# EAGLE library part MCP25050 (library microchip_mcp25xxx)
CAN I/O Expander ( with A/D )
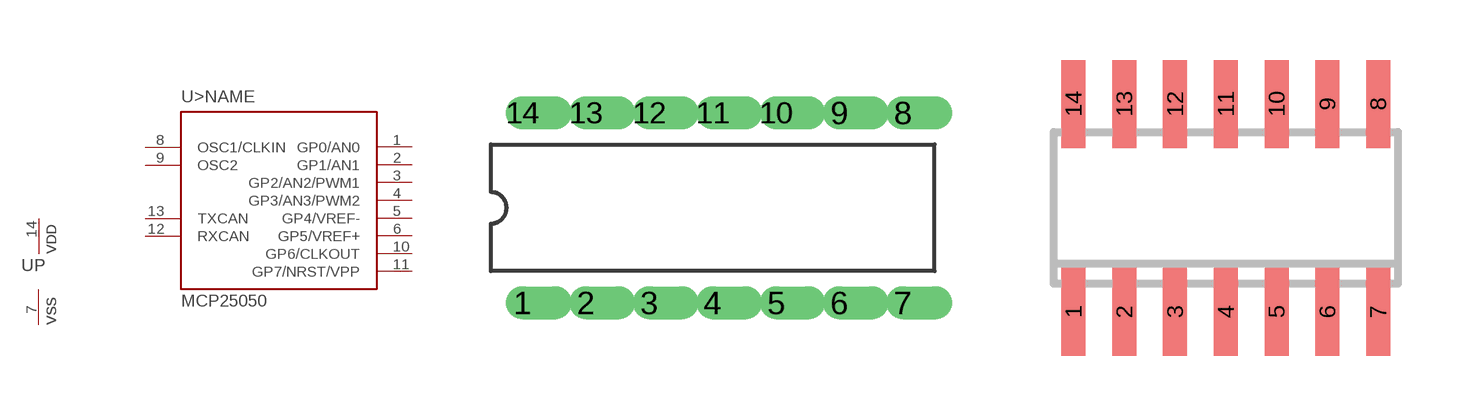
[diagram p3: symbol with the pads of DIL14; footprints DIL14, SO-14]

Designator prefix U; gates >NAME=MCP25050 P=PWRN

## MCP25050P  [DIL14]
1  >NAME:GP0/AN0
2  >NAME:GP1/AN1
3  >NAME:GP2/AN2/PWM1
4  >NAME:GP3/AN3/PWM2
5  >NAME:GP4/VREF-
6  >NAME:GP5/VREF+
7  P:VSS  pwr
8  >NAME:OSC1/CLKIN  in
9  >NAME:OSC2  out
10  >NAME:GP6/CLKOUT
11  >NAME:GP7/NRST/VPP
12  >NAME:RXCAN  in
13  >NAME:TXCAN  out
14  P:VDD  pwr

## MCP25050SL  [SO-14]
Pads as for DIL14

## Footprint DIL14 (pad centres in mm)
Dual In Line package type P
drill 0.813 offset: 1 -10.16,-3.81; 2 -7.62,-3.81; 3 -5.08,-3.81; 4 -2.54,-3.81; 5 0,-3.81; 6 2.54,-3.81; 7 5.08,-3.81; 8 5.08,3.81; 9 2.54,3.81; 10 0,3.81; 11 -2.54,3.81; 12 -5.08,3.81; 13 -7.62,3.81; 14 -10.16,3.81

## Footprint SO-14 (pad centres in mm)
Small Outline Narrow Plastic Gull Wing 150-mil body, package type SL
smd 0.6 x 2.2: 1 -3.81,-2.6; 2 -2.54,-2.6; 3 -1.27,-2.6; 4 0,-2.6; 5 1.27,-2.6; 6 2.54,-2.6; 7 3.81,-2.6; 8 3.81,2.6; 9 2.54,2.6; 10 1.27,2.6; 11 0,2.6; 12 -1.27,2.6; 13 -2.54,2.6; 14 -3.81,2.6